# Altium schematic symbol library Schlib1.SchLib: 69 symbols
Pins are listed as number, name and electrical type; pins without a type are passive.

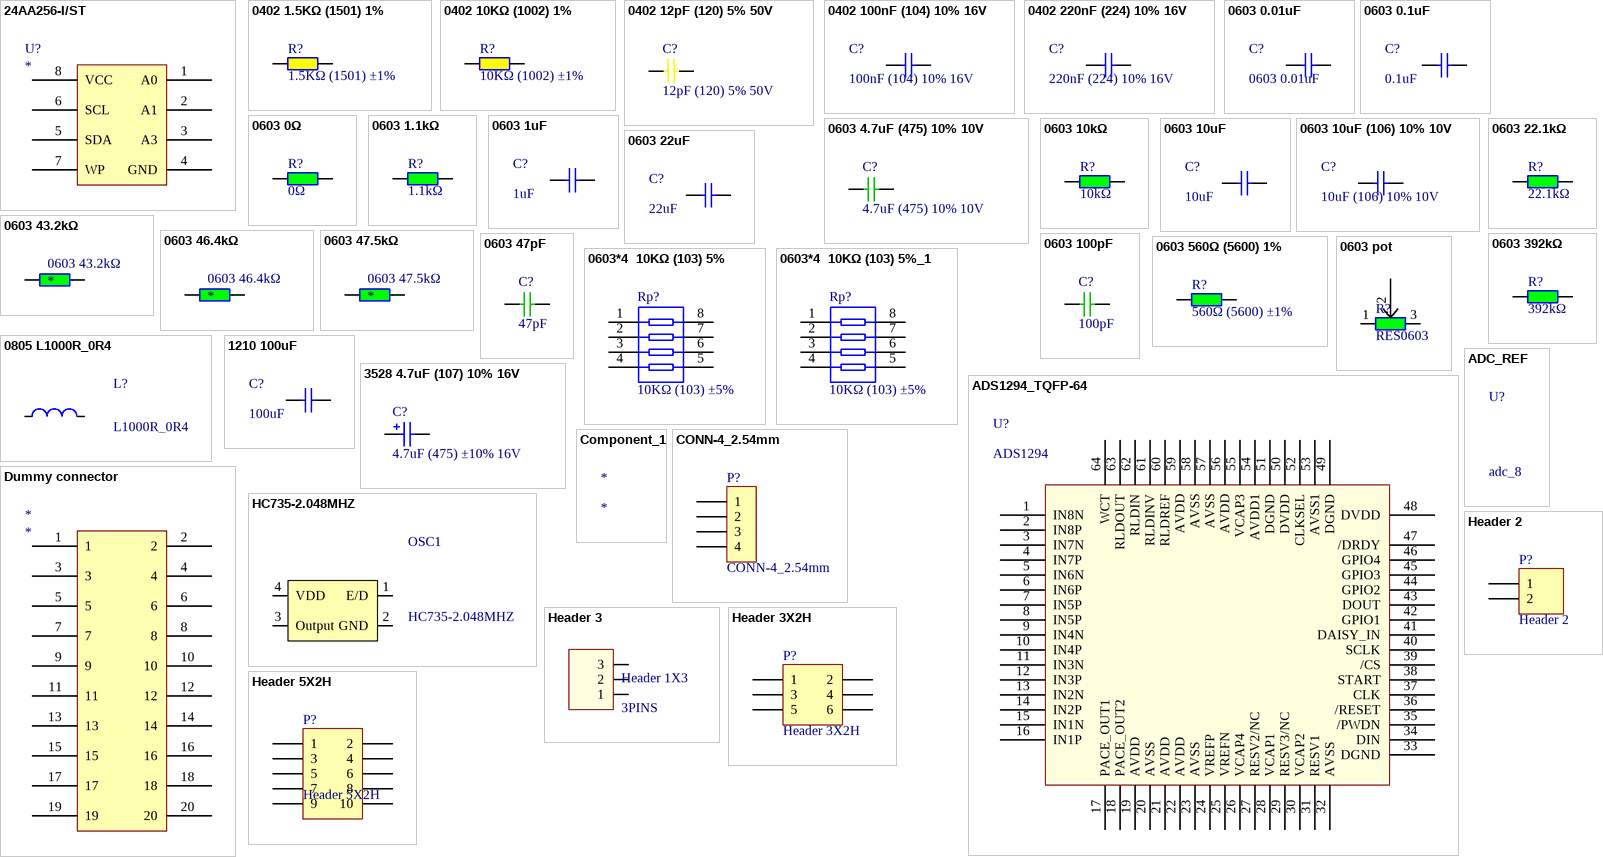
[diagram p0: symbols 24AA256-I/ST to Header 5X2H]

## 24AA256-I/ST
designator U?
24AA256-I/ST; ComponentLink1URL: https://item.szlcsc.com/156706.html#pdf-view; SuppliersPartNumber: C145374
footprint TSSOP-8_3x4.4x065P
pins: 1 A0, 2 A1, 3 A3, 4 GND, 5 SDA, 6 SCL, 7 WP, 8 VCC

## 0402 1.5KΩ (1501) 1%
designator R?, comment 1.5KΩ (1501) ±1%
贴片电阻; ComponentLink1Description: 供应商链接; ComponentLink1URL: http://www.szlcsc.com/product/details_26610.html; Package: 0402; Supplier: LC; SuppliersPartNumber: C25867
footprint 0402_R
pins: 1, 2

## 0402 10KΩ (1002) 1%
designator R?, comment 10KΩ (1002) ±1%
贴片电阻; ComponentLink1Description: 供应商链接; ComponentLink1URL: http://www.szlcsc.com/product/details_26487.html; Package: 0402; Supplier: LC; SuppliersPartNumber: C25744
footprint 0402_R
pins: 1, 2

## 0402 12pF (120) 5% 50V
designator C?, comment 12pF (120) 5% 50V
贴片电容; ComponentLink1Description: 供应商链接; ComponentLink1URL: http://www.szlcsc.com/product/details_1899.html; Package: 0402; Supplier: LC; SuppliersPartNumber: C1547
footprint 0402_C
pins: 1, 2

## 0402 100nF (104) 10% 16V
designator C?, comment 100nF (104) 10% 16V
贴片电容; ComponentLink1Description: 供应商链接; ComponentLink1URL: http://www.szlcsc.com/product/details_1877.html; Package: 0402; Supplier: LC; SuppliersPartNumber: C1525
footprint 0402_C
pins: 1, 2

## 0402 220nF (224) 10% 16V
designator C?, comment 220nF (224) 10% 16V
贴片电容; ComponentLink1Description: 供应商链接; ComponentLink1URL: http://www.szlcsc.com/product/details_17456.html; Package: 0402; Supplier: LC; SuppliersPartNumber: C16772
footprint 0402_C
pins: 1, 2

## 0603 0.01uF
designator C?
贴片电容; ComponentLink1Description: 供应商链接; ComponentLink1URL: https://item.szlcsc.com/147444.html; Package: 0603; Supplier: LC; SuppliersPartNumber: C136131
footprint 0603_C
pins: 1, 2

## 0603 0.1uF
designator C?, comment 0.1uF
贴片电容; ComponentLink1Description: 供应商链接; ComponentLink1URL: https://item.szlcsc.com/257623.html; Package: 0603; Supplier: LC; SuppliersPartNumber: C268011
footprint 0603_C
pins: 1, 2

## 0603 0Ω
designator R?, comment 0Ω
贴片电阻; ComponentLink1Description: 供应商链接; ComponentLink1URL: https://item.szlcsc.com/424873.html; Package: 0603; Supplier: LC; SuppliersPartNumber: C429617
footprint 0603_R
pins: 1, 2

## 0603 1.1kΩ
designator R?, comment 1.1kΩ
贴片电阻; ComponentLink1Description: 供应商链接; ComponentLink1URL: https://item.szlcsc.com/258855.html; Package: 0603; Supplier: LC; SuppliersPartNumber: C269415
footprint 0603_R
pins: 1, 2

## 0603 1uF
designator C?, comment 1uF
贴片电容; ComponentLink1Description: 供应商链接; ComponentLink1URL: https://item.szlcsc.com/173581.html; Package: 0603; Supplier: LC; SuppliersPartNumber: C162200
footprint 0603_C
pins: 1, 2

## 0603 4.7uF (475) 10% 10V
designator C?, comment 4.7uF (475) 10% 10V
贴片电容; ComponentLink1Description: 供应商链接; ComponentLink1URL: https://item.szlcsc.com/2057.html; Package: 0603; Supplier: LC; SuppliersPartNumber: C1705
footprint 0603_C
pins: 1, 2

## 0603 10kΩ
designator R?, comment 10kΩ
贴片电阻; ComponentLink1Description: 供应商链接; ComponentLink1URL: https://item.szlcsc.com/238017.html; Package: 0603; Supplier: LC; SuppliersPartNumber: C238881
footprint 0603_R
pins: 1, 2

## 0603 10uF
designator C?, comment 10uF
贴片电容; ComponentLink1Description: 供应商链接; ComponentLink1URL: https://item.szlcsc.com/300462.html; Package: 0603; Supplier: LC; SuppliersPartNumber: C319196
footprint 0603_C
pins: 1, 2

## 0603 10uF (106) 10% 10V
designator C?, comment 10uF (106) 10% 10V
贴片电容; ComponentLink1Description: 供应商链接; ComponentLink1URL: http://www.szlcsc.com/product/details_20411.html; Package: 0603; Supplier: LC; SuppliersPartNumber: C19702
footprint 0603_C
pins: 1, 2

## 0603 22.1kΩ
designator R?, comment 22.1kΩ
贴片电阻; ComponentLink1Description: 供应商链接; ComponentLink1URL: https://item.szlcsc.com/258916.html; Package: 0603; Supplier: LC; SuppliersPartNumber: C269476
footprint 0603_R
pins: 1, 2

## 0603 22uF
designator C?, comment 22uF
贴片电容; ComponentLink1Description: 供应商链接; ComponentLink1URL: https://item.szlcsc.com/85589.html; Package: 0603; Supplier: LC; SuppliersPartNumber: C84419
footprint 0603_C
pins: 1, 2

## 0603 43.2kΩ
designator 0603 43.2kΩ
贴片电阻; ComponentLink1URL: https://item.szlcsc.com/306153.html; SuppliersPartNumber: C325948
footprint 0603_R
pins: 1, 2

## 0603 46.4kΩ
designator 0603 46.4kΩ
贴片电阻; ComponentLink1URL: https://item.szlcsc.com/23786.html; SuppliersPartNumber: C23059
footprint 0603_R
pins: 1, 2

## 0603 47.5kΩ
designator 0603 47.5kΩ
贴片电阻; ComponentLink1URL: https://item.szlcsc.com/305901.html; SuppliersPartNumber: C325696
footprint 0603_R
pins: 1, 2

## 0603 47pF
designator C?, comment 47pF
贴片电容; ComponentLink1Description: 供应商链接; ComponentLink1URL: https://item.szlcsc.com/287890.html; Package: 0603; Supplier: LC; SuppliersPartNumber: C302069
footprint 0603_C
pins: 1, 2

## 0603 100pF
designator C?, comment 100pF
贴片电容; ComponentLink1Description: 供应商链接; ComponentLink1URL: https://item.szlcsc.com/264826.html; Package: 0603; Supplier: LC; SuppliersPartNumber: C277507
footprint 0603_C
pins: 1, 2

## 0603 392kΩ
designator R?, comment 392kΩ
贴片电阻; ComponentLink1Description: 供应商链接; ComponentLink1URL: https://item.szlcsc.com/23879.html; Package: 0603; Supplier: LC; SuppliersPartNumber: C23152
footprint 0603_R
pins: 1, 2

## 0603 560Ω (5600) 1%
designator R?, comment 560Ω (5600) ±1%
贴片电阻; ComponentLink1Description: 供应商链接; ComponentLink1URL: http://www.szlcsc.com/product/details_23931.html; Package: 0603; Supplier: LC; SuppliersPartNumber: C23204
footprint 0603_R
pins: 1, 2

## 0603 pot
designator R?, comment RES0603
滑动电阻; ComponentLink1Description: 供应商链接; ComponentLink1URL: http://www.szlcsc.com/product/details_23931.html; Package: 0603; Supplier: LC; SuppliersPartNumber: C429617
footprint HDR1X3 (HeaderPINS1X3)
pins: 1, 2, 3

## 0603*4  10KΩ (103) 5%
designator Rp?, comment 10KΩ (103) ±5%
贴片排阻; ComponentLink1Description: 供应商链接; ComponentLink1URL: http://www.szlcsc.com/product/details_30472.html; Package: 0603*4; Supplier: LC; SuppliersPartNumber: C29718
footprint 0603_Rx4
pins: 1, 2, 3, 4, 5, 6, 7, 8

## 0603*4  10KΩ (103) 5%_1
designator Rp?, comment 10KΩ (103) ±5%
贴片排阻; ComponentLink1Description: 供应商链接; ComponentLink1URL: http://www.szlcsc.com/product/details_30472.html; Package: 0603*4; Supplier: LC; SuppliersPartNumber: C29718
footprint 0603_Rx4
pins: 1, 2, 3, 4, 5, 6, 7, 8

## 0805 L1000R_0R4
designator L?, comment L1000R_0R4
贴片磁珠 1000R 400mO 500mA; Manufacturer: Sunlord; Manufacturer No: GZ2012U102TF; ComponentLink1URL: https://item.szlcsc.com/91441.html; Package: 2.0*1.2*0.85mm; Supplier: LC; SuppliersPartNumber: C74323
footprint 0805_L (Chip Inductor, 2-Leads, Body 2.10x1.30mm, IPC Medium Density)
pins: 1, 2

## 1210 100uF
designator C?, comment 100uF
贴片电容; ComponentLink1Description: 供应商链接; ComponentLink1URL: https://item.szlcsc.com/93988.html; Package: 1210; Supplier: LC; SuppliersPartNumber: C92794
footprint 1210_C
pins: 1, 2

## 3528 4.7uF (107) 10% 16V
designator C?, comment 4.7uF (475) ±10% 16V
钽电容; ComponentLink1Description: 供应商链接; ComponentLink1URL: https://item.szlcsc.com/151729.html; Package: CASE-B_3528; Supplier: LC; SuppliersPartNumber: C140403
footprint CASE-B_3528
pins: 1, 2

## ADC_REF
designator U?, comment adc_8
Header, 3-Pin, Dual row, Right Angle; LatestRevisionDate: 17-Jul-2002; LatestRevisionNote: Re-released for DXP Platform.; Publisher: Altium Limited
signal-integrity model Connector
footprint 0603_Rx4

## ADS1294_TQFP-64
designator U?, comment ADS1294
footprint TQFP-64_10x10x05P
pins: 1 IN8N, 2 IN8P, 3 IN7N, 4 IN7P, 5 IN6N, 6 IN6P, 7 IN5P, 8 IN5P, 9 IN4N, 10 IN4P, 11 IN3N, 12 IN3P, 13 IN2N, 14 IN2P, 15 IN1N, 16 IN1P, 17 PACE_OUT1, 18 PACE_OUT2, 19 AVDD, 20 AVSS, 21 AVDD, 22 AVDD, 23 AVSS, 24 VREFP, 25 VREFN, 26 VCAP4, 27 RESV2/NC, 28 VCAP1, 29 RESV3/NC, 30 VCAP2, 31 RESV1, 32 AVSS, 33 DGND, 34 DIN, 35 /PWDN, 36 /RESET, 37 CLK, 38 START, 39 /CS, 40 SCLK, 41 DAISY_IN, 42 GPIO1, 43 DOUT, 44 GPIO2, 45 GPIO3, 46 GPIO4, 47 /DRDY, 48 DVDD, 49 DGND, 50 DVDD, 51 DGND, 52 CLKSEL, 53 AVSS1, 54 AVDD1, 55 VCAP3, 56 AVDD, 57 AVSS, 58 AVSS, 59 AVDD, 60 RLDREF, 61 RLDINV, 62 RLDIN, 63 RLDOUT, 64 WCT

## Component_1
designator *

## CONN-4_2.54mm
designator P?
2.54mm 4pin through hole; ComponentLink1URL: https://item.szlcsc.com/125653.html; SuppliersPartNumber: C124378
footprint CON4-2.54mm
pins: 1, 2, 3, 4

## Dummy connector
designator *
pins: 1, 2, 3, 4, 5, 6, 7, 8, 9, 10, 11, 12, 13, 14, 15, 16, 17, 18, 19, 20

## HC735-2.048MHZ
designator OSC1
振荡器; Manufacturer: MicroChip; Manufacturer No: MCP1700T-3302E/TT; Note: 3.3V固定输出，Iout=250mA，Vin=6.5V(Max); Pins: 3; Supplier: LC; SuppliersPartNumber: C387316; ComponentLink1URL: https://item.szlcsc.com/361404.html
footprint SMD-3225_4P
pins: 1 E/D, 2 GND, 3 Output, 4 VDD

## Header 2
designator P?
Header, 2-Pin; LatestRevisionDate: 17-Jul-2002; LatestRevisionNote: Re-released for DXP Platform.; Publisher: Altium Limited
signal-integrity model Connector
footprint HDR1X2
pins: 1, 2

## Header 3
designator Header 1X3, comment 3PINS
Header 1X3PINS; ComponentLink1URL: https://item.szlcsc.com/225761.html; SuppliersPartNumber: C225478; Size: P=2.54mm
footprint HDR1X3 (HeaderPINS1X3)
pins: 1, 2, 3

## Header 3X2H
designator P?
Header, 3-Pin, Dual row, Right Angle; LatestRevisionDate: 17-Jul-2002; LatestRevisionNote: Re-released for DXP Platform.; Publisher: Altium Limited
signal-integrity model Connector
footprint HDR2X3H
pins: 1, 2, 3, 4, 5, 6

## Header 5X2H
designator P?
Header, 10-Pin, Dual row, Right Angle; LatestRevisionDate: 17-Jul-2002; LatestRevisionNote: Re-released for DXP Platform.; Publisher: Altium Limited; ComponentLink1URL: https://item.szlcsc.com/2712.html; SuppliersPartNumber: C2337
signal-integrity model Connector
footprint HDR2X5 (HeaderPINS1X3)
pins: 1, 2, 3, 4, 5, 6, 7, 8, 9, 10

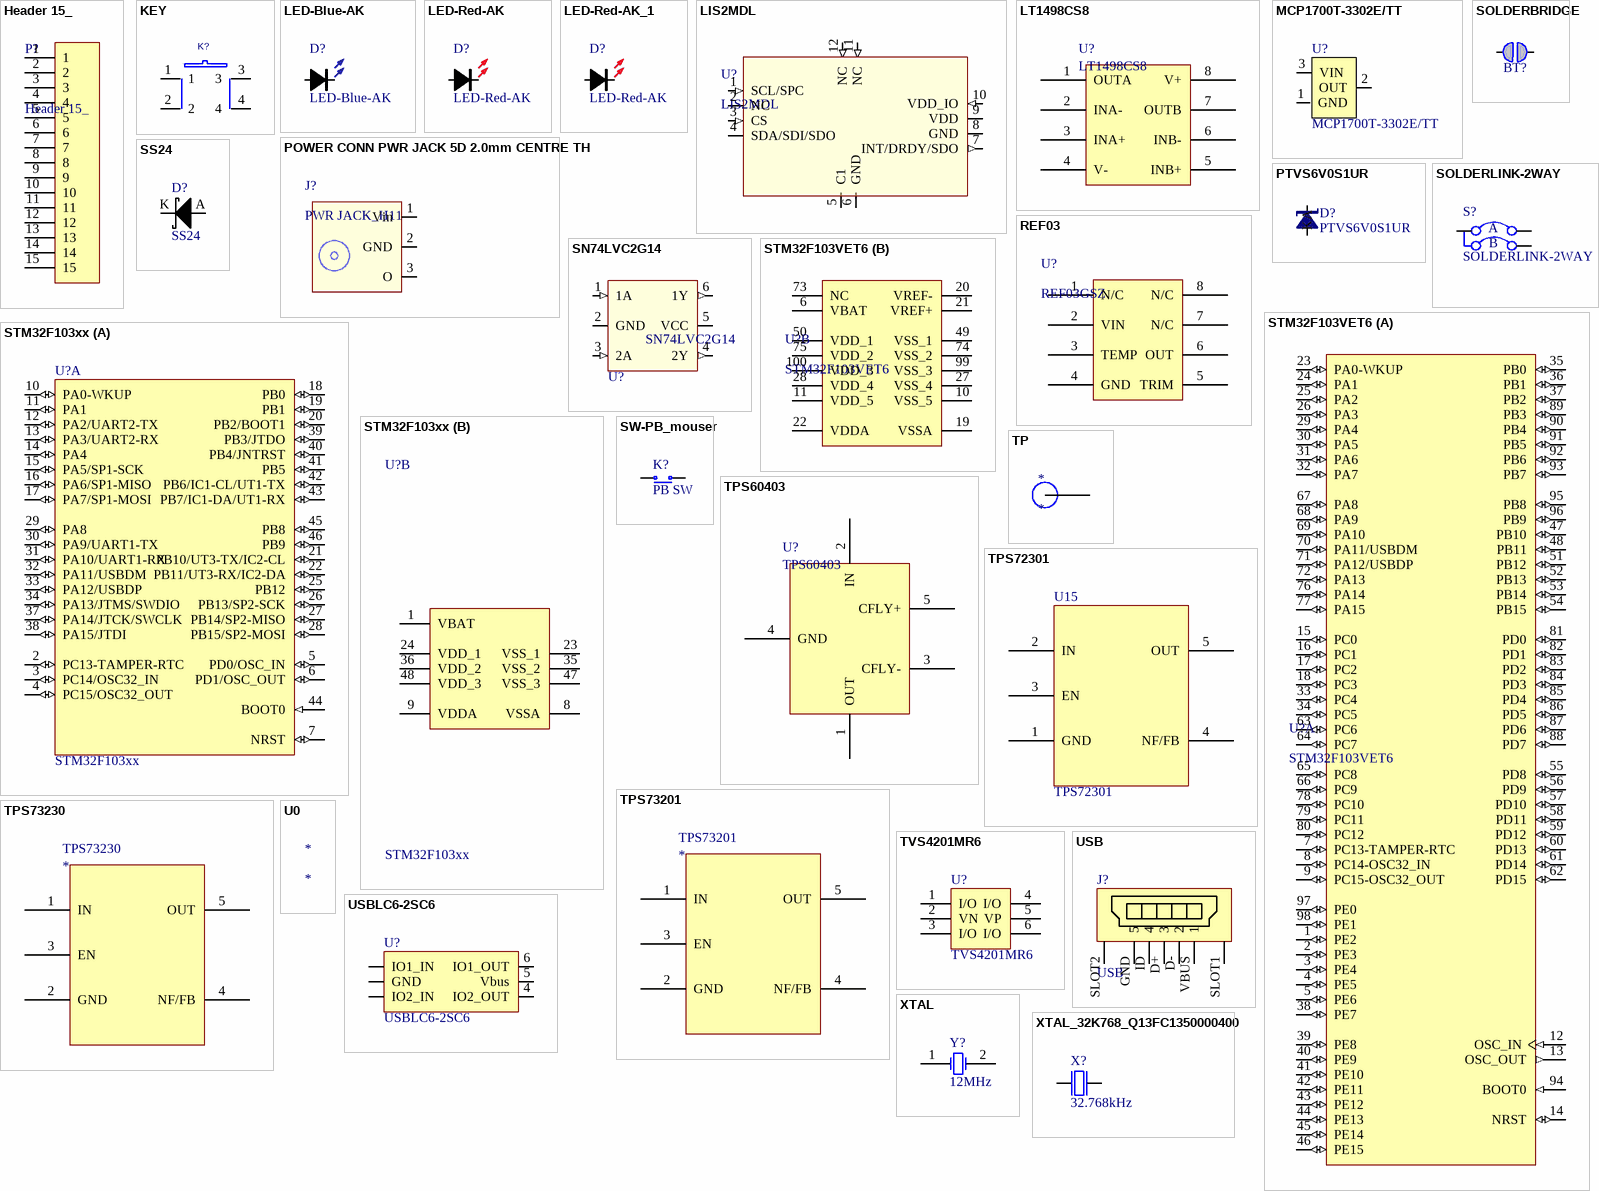
[diagram p1: symbols Header 15_ to XTAL_32K768_Q13FC1350000400]

## Header 15_
designator P?
Header, 2-Pin; LatestRevisionDate: 17-Jul-2002; LatestRevisionNote: Re-released for DXP Platform.; Publisher: Altium Limited; SuppliersPartNumber: C77835; ComponentLink1URL: https://item.szlcsc.com/78969.html
signal-integrity model Connector
footprint DSUB1.385-2H15 (Connector; D Subminiature; 15 Position; Right Angle; Pitch 1.385 mm)
pins: 1, 2, 3, 4, 5, 6, 7, 8, 9, 10, 11, 12, 13, 14, 15

## KEY
designator K?  (value not drawn)
PCB DECAL: SW6.2/6.2-SMD; Manufacturer #1 PN: KEY
footprint SW6.2/6.2-SMD
pins: 1, 2, 3, 4

## LED-Blue-AK
designator D?
LED-Blue-AK 0603; Manufacturer: Orient(奥伦德); Manufacturer No: ORH-B36G; Supplier: LC; SuppliersPartNumber: C193191; PartType: SM; Pin Count: 2; Package: 0603-LED; ComponentLink1URL: https://item.szlcsc.com/226397.html
footprint 0603-LED
pins: A, K

## LED-Red-AK
designator D?
LED-Red-AK 0603; Manufacturer: LiteON; Manufacturer No: LTST-C190KRKT; Supplier: LC; SuppliersPartNumber: C84263; PartType: SM; Pin Count: 2; Package: 0603-LED; ComponentLink1URL: https://item.szlcsc.com/85432.html
footprint 0603-LED
pins: A, K

## LED-Red-AK_1
designator D?, comment LED-Red-AK
LED-Red-AK 0603; Manufacturer: LiteON; Manufacturer No: LTST-C190KRKT; Supplier: LC; SuppliersPartNumber: C84263; PartType: SM; Pin Count: 2; Package: 0603-LED
footprint 0603-LED
pins: A, K

## LIS2MDL
designator U?
ST 3-axis magnetometer; SuppliersPartNumber: ST
footprint LGA12C50P4X4_200X200X70 - duplicate (LGA, 12-Leads, Body 2.00x2.00mmx0.70mm, Pitch 0.50mm)
pins: 1 SCL/SPC (in), 2 NC, 3 CS (in), 4 SDA/SDI/SDO (io), 5 C1, 6 GND, 7 INT/DRDY/SDO (out), 8 GND, 9 VDD, 10 VDD_IO (in), 11 NC (in), 12 NC (in)

## LT1498CS8
designator U?
ComponentLink1URL: https://item.szlcsc.com/118623.html; SuppliersPartNumber: C117365
footprint SO-8_3.9mm
pins: 1 OUTA, 2 INA-, 3 INA+, 4 V-, 5 INB+, 6 INB-, 7 OUTB, 8 V+

## MCP1700T-3302E/TT
designator U?
低压差线性稳压; Manufacturer: MicroChip; Note: 3.3V固定输出，Iout=250mA，Vin=6.5V(Max); Manufacturer No: MCP1700T-3302E/TT; Pins: 3; Supplier: LC; SuppliersPartNumber: C39051; ComponentLink1URL: https://item.szlcsc.com/40034.html
footprint SOT23-3
pins: 1 GND, 2 OUT, 3 VIN

## POWER CONN PWR JACK 5D 2.0mm CENTRE TH
designator J?, comment PWR JACK_H11
POWER CONN PWR JACK 5D 2.0mm CENTRE TH; SupplyerPartNumber: C84007; ComponentLink1URL: https://item.szlcsc.com/85175.html
footprint Jack-2mmCore-5mm (5mmOuter2mmInnerCoreJack)
pins: 1 Vin, 2 GND, 3 O

## PTVS6V0S1UR
designator D?
DIODE TVS 6V0 400W peak; Manufacturer: Nexperia(安世); Manufacturer No: PTVS6V0S1UR; Supplier: LC; SuppliersPartNumber: C294622; Pin Count: 2; Note: TVS 6V0 400W peak; Package: SOD-123W
footprint SOD-123
pins: 1 A, 2 K

## REF03
designator U?, comment REF03GSZ
IC,8-Pin; ComponentLink1URL: https://detail.tmall.com/item.htm?spm=a230r.1.14.1.21361e2fcYpXCC&id=560574164802&cm_id=140105335569ed55e27b&abbucket=20
footprint SOIC-8_208mil
pins: 1 N/C, 2 VIN, 3 TEMP, 4 GND, 5 TRIM, 6 OUT, 7 N/C, 8 N/C

## SN74LVC2G14
designator U?
74系列逻辑芯片; Manufacturer No: SN74LVC2G14DBVR; Manufacturer: TI; Note: Dual Schmitt-Trigger Inverter, 1.65V-6.5V 4.6ns,; Pins: 6; SuppliersPartNumber: C12401; Supplier: LC; ComponentLink1URL: https://item.szlcsc.com/13032.html
footprint SN74LVC2G14DBVR
pins: 1 1A (in), 2 GND, 3 2A (in), 4 2Y (out), 5 VCC (power), 6 1Y (out)

## SOLDERBRIDGE
designator BT?, comment Solderbridge  (value not drawn)  (no BOM)
Artikkelnr Noca: N.A.; Part Number: Solderbridge; Manufacturer: *; Manufacturer Part Number: *; Datasheet: *; Footprint: Solderbridge; LatestRevisionDate: 2009-12-14; Pin Count: 2; Publisher: Nordic Semiconductor; Published: 2009-12-14; Note: *; Supplier: *; Supplier part number: *; 2nd source Supplier: *; 2nd source part number: *; Value: Solderbridge
footprint Solderbridge
footprint FC-135
pins: 1 0, 2 1

## SOLDERLINK-2WAY
designator S?
PART DESC: 2-way Solder Link (Use 0r 0603 Resistor); PART NUMBER: Insert in Link Position "A"; STOCK CODE: FEC 933-1662; MFG #1: n/a
footprint 0603-2WAY-BRIDGE
footprint 0603-2WAY-BRIDGE-MIRROR
footprint 0603-3WAY-BRIDGE
pins: 1, 2, 3
text: A; B

## SS24
designator D?
SCHOTTKY DIODE; Manufacturer: Fairchild Semiconductor; Note: 40V 2A DO214AA; Manufacturer No: SS24; Supplier: LC; PartType: SM; ROHS: True; Pin Count: 2; SuppliersPartNumber: C64881; ComponentLink1URL: https://item.szlcsc.com/65951.html
footprint SMB-DIODE-DO214AA
footprint FC-135
pins: A, K

## STM32F103VET6
designator U?
ARM; ComponentLink1Description: 供应商链接; ComponentLink1URL: http://www.szlcsc.com/product/details_8800.html; Package: LQFP-100_14x14x05P; Supplier: LC; SuppliersPartNumber: C8308
footprint LQFP-100_14x14x05P
part A pins: 1 PE2 (io), 2 PE3 (io), 3 PE4 (io), 4 PE5 (io), 5 PE6 (io), 7 PC13-TAMPER-RTC (io), 8 PC14-OSC32_IN (io), 9 PC15-OSC32_OUT (io), 12 OSC_IN (in), 13 OSC_OUT (out), 14 NRST (io), 15 PC0 (io), 16 PC1 (io), 17 PC2 (io), 18 PC3 (io), 23 PA0-WKUP (io), 24 PA1 (io), 25 PA2 (io), 26 PA3 (io), 29 PA4 (io), 30 PA5 (io), 31 PA6 (io), 32 PA7 (io), 33 PC4 (io), 34 PC5 (io), 35 PB0 (io), 36 PB1 (io), 37 PB2 (io), 38 PE7 (io), 39 PE8 (io), 40 PE9 (io), 41 PE10 (io), 42 PE11 (io), 43 PE12 (io), 44 PE13 (io), 45 PE14 (io), 46 PE15 (io), 47 PB10 (io), 48 PB11 (io), 51 PB12 (io), 52 PB13 (io), 53 PB14 (io), 54 PB15 (io), 55 PD8 (io), 56 PD9 (io), 57 PD10 (io), 58 PD11 (io), 59 PD12 (io), 60 PD13 (io), 61 PD14 (io), 62 PD15 (io), 63 PC6 (io), 64 PC7 (io), 65 PC8 (io), 66 PC9 (io), 67 PA8 (io), 68 PA9 (io), 69 PA10 (io), 70 PA11/USBDM (io), 71 PA12/USBDP (io), 72 PA13 (io), 76 PA14 (io), 77 PA15 (io), 78 PC10 (io), 79 PC11 (io), 80 PC12 (io), 81 PD0 (io), 82 PD1 (io), 83 PD2 (io), 84 PD3 (io), 85 PD4 (io), 86 PD5 (io), 87 PD6 (io), 88 PD7 (io), 89 PB3 (io), 90 PB4 (io), 91 PB5 (io), 92 PB6 (io), 93 PB7 (io), 94 BOOT0 (in), 95 PB8 (io), 96 PB9 (io), 97 PE0 (io), 98 PE1 (io)
part B pins: 6 VBAT (power), 10 VSS_5 (power), 11 VDD_5 (power), 19 VSSA (power), 20 VREF- (power), 21 VREF+ (power), 22 VDDA (power), 27 VSS_4 (power), 28 VDD_4 (power), 49 VSS_1 (power), 50 VDD_1 (power), 73 NC, 74 VSS_2 (power), 75 VDD_2 (power), 99 VSS_3 (power), 100 VDD_3 (power)

## STM32F103xx
designator U?
ARM; ComponentLink1Description: 供应商链接; ComponentLink1URL: http://www.szlcsc.com/product/details_9243.html; Package: LQFP-48_7x7x05P; Supplier: LC; SuppliersPartNumber: C8734
footprint LQFP-48_7x7x05P
part A pins: 2 PC13-TAMPER-RTC (io), 3 PC14/OSC32_IN (io), 4 PC15/OSC32_OUT (io), 5 PD0/OSC_IN (io), 6 PD1/OSC_OUT (io), 7 NRST (io), 10 PA0-WKUP (io), 11 PA1 (io), 12 PA2/UART2-TX (io), 13 PA3/UART2-RX (io), 14 PA4 (io), 15 PA5/SP1-SCK (io), 16 PA6/SP1-MISO (io), 17 PA7/SP1-MOSI (io), 18 PB0 (io), 19 PB1 (io), 20 PB2/BOOT1 (io), 21 PB10/UT3-TX/IC2-CL (io), 22 PB11/UT3-RX/IC2-DA (io), 25 PB12 (io), 26 PB13/SP2-SCK (io), 27 PB14/SP2-MISO (io), 28 PB15/SP2-MOSI (io), 29 PA8 (io), 30 PA9/UART1-TX (io), 31 PA10/UART1-RX (io), 32 PA11/USBDM (io), 33 PA12/USBDP (io), 34 PA13/JTMS/SWDIO (io), 37 PA14/JTCK/SWCLK (io), 38 PA15/JTDI (io), 39 PB3/JTDO (io), 40 PB4/JNTRST (io), 41 PB5 (io), 42 PB6/IC1-CL/UT1-TX (io), 43 PB7/IC1-DA/UT1-RX (io), 44 BOOT0 (in), 45 PB8 (io), 46 PB9 (io)
part B pins: 1 VBAT (power), 8 VSSA (power), 9 VDDA (power), 23 VSS_1 (power), 24 VDD_1 (power), 35 VSS_2 (power), 36 VDD_2 (power), 47 VSS_3 (power), 48 VDD_3 (power)

## SW-PB_mouser
designator K?, comment PB SW
Switch; Manufacturer: 韩国韩荣; Manufacturer Part Number: K2-6639SP-C4SC-04; Note: 6.5x6.2x2.5mm; Pin Count: 4; Supplier: LC; SuppliersPartNumber: C83206; Package: SM; Value: PB SW; ComponentLink1URL: https://item.szlcsc.com/84370.html
footprint ALPS_SKHUxxx010_WO_GND
pins: 1 N.O, 2 COM

## TP
designator *
footprint TP_SMD_D1.0mm
pins: 1

## TPS60403
designator U?
ComponentLink1URL: https://item.szlcsc.com/11891.html; SuppliersPartNumber: C11338
footprint SOT-23-5
pins: 1 OUT, 2 IN, 3 CFLY-, 4 GND, 5 CFLY+

## TPS72301
designator U15
ComponentLink1URL: https://item.szlcsc.com/35647.html; SuppliersPartNumber: C34678
footprint SOT-23-5
pins: 1 GND (power), 2 IN (power), 3 EN, 4 NF/FB, 5 OUT

## TPS73201
designator TPS73201
ComponentLink1URL: https://item.szlcsc.com/37506.html; SuppliersPartNumber: C36528
footprint SOT-23-5
pins: 1 IN, 2 GND, 3 EN, 4 NF/FB, 5 OUT

## TPS73230
designator TPS73230
ComponentLink1URL: https://item.szlcsc.com/75754.html; SuppliersPartNumber: C74632
footprint SOT-23-5
pins: 1 IN, 2 GND, 3 EN, 4 NF/FB, 5 OUT

## TVS4201MR6
designator U?
保护装置; supply number: C411220; LatestRevisionDate: 17-Jul-2002; LatestRevisionNote: Re-released for DXP Platform.; Publisher: Altium Limited; ComponentLink1URL: https://item.szlcsc.com/402377.html
signal-integrity model Connector
footprint TSOP-6
pins: 1 I/O, 2 VN, 3 I/O, 4 I/O, 5 VP, 6 I/O

## U0
designator *

## USB
designator J?
Micro-USB Type:B; Manufacturer: 精拓金; Manufacturer No: micro 5P全贴有柱无导位 平口外焊; Supplier: LC; SuppliersPartNumber: C77238; Pin Count: 6; ComponentLink1URL: https://item.szlcsc.com/78366.html
footprint MicroUSB_SMT
pins: D+ 3, D- 2, GND 5, ID 4, SLOT1, SLOT2, VBUS 1

## USBLC6-2SC6
designator U?
ESD二极管（静电保护）; Manufacturer: ST; Supplier: LC; SuppliersPartNumber: C7519; Manufacturer No: USBLC6-2SC6; Package: SOT-23-6; ComponentLink1URL: https://item.szlcsc.com/7996.html
footprint SOT-23-6
pins: 1 IO1_IN, 2 GND, 3 IO2_IN, 4 IO2_OUT, 5 Vbus, 6 IO1_OUT

## XTAL
designator Y?, comment 12MHz
Crystal Oscillator; Manufacturer: YXC; Manufacturer No: X503212MSB2GI; Package: SMD-5032_2P; SuppliersPartNumber: C112573; Supplier: LC; ComponentLink1URL: https://item.szlcsc.com/113806.html
footprint 7A0801LCSC-DDK2G
pins: 1 OSC1, 2 OSC2

## XTAL_32K768_Q13FC1350000400
designator X?, comment 32.768kHz
Manufacturer: Epson Toyocom; Manufacturer No: Q13FC1350000400; Note: XTAL SMD 32.768kHz+/-20ppm, SMD-3215; Footprint: FC-135; Pin Count: 2; Supplier: LC; Value: 32.768kHz; SuppliersPartNumber: C32346; ComponentLink1URL: https://item.szlcsc.com/33310.html
footprint FC-135
pins: 1 inp, 2 out